# EAGLE library part TPS61253YFFT (library Beechat_crank)
3.5MHz, 1500mA peak loading current, high efficiency step-up converter in chip scale packaging Source: Datasheet <http://www.ti.com/lit/ds/symlink/tps61253.pdf>
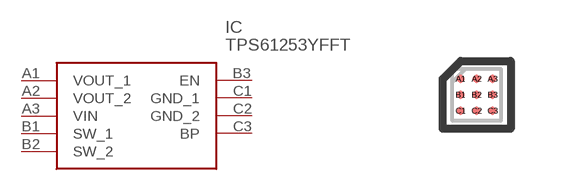
[diagram p0: symbol with the pads of BGA9C40P3X3_121X131X62; footprint BGA9C40P3X3_121X131X62]

Designator prefix IC

## TPS61253YFFT (DESCRIPTION: 3.5MHz, 1500mA peak loading current, high efficiency step-up converter in chip scale packaging; HEIGHT: 0.625mm; MANUFACTURER_NAME: Texas Instruments; MANUFACTURER_PART_NUMBER: TPS61253YFFT; MOUSER_PART_NUMBER: 595-TPS61253YFFT; MOUSER_PRICE-STOCK: https://www.mouser.co.uk/ProductDetail/Texas-Instruments/TPS61253YFFT?qs=5771e39Rz9GCZ%2F3p%2FPQxpQ%3D%3D)  [BGA9C40P3X3_121X131X62]
A1  VOUT_1
A2  VOUT_2
A3  VIN
B1  SW_1
B2  SW_2
B3  EN
C1  GND_1
C2  GND_2
C3  BP

## Footprint BGA9C40P3X3_121X131X62 (pad centres in mm)
YFF0009-1
smd 0.2 x 0.2: A1 -0.4,0.4; A2 0,0.4; A3 0.4,0.4; B1 -0.4,0; B2 0,0; B3 0.4,0; C1 -0.4,-0.4; C2 0,-0.4; C3 0.4,-0.4